# EAGLE library part STM32F723I (library sjg-stm32)
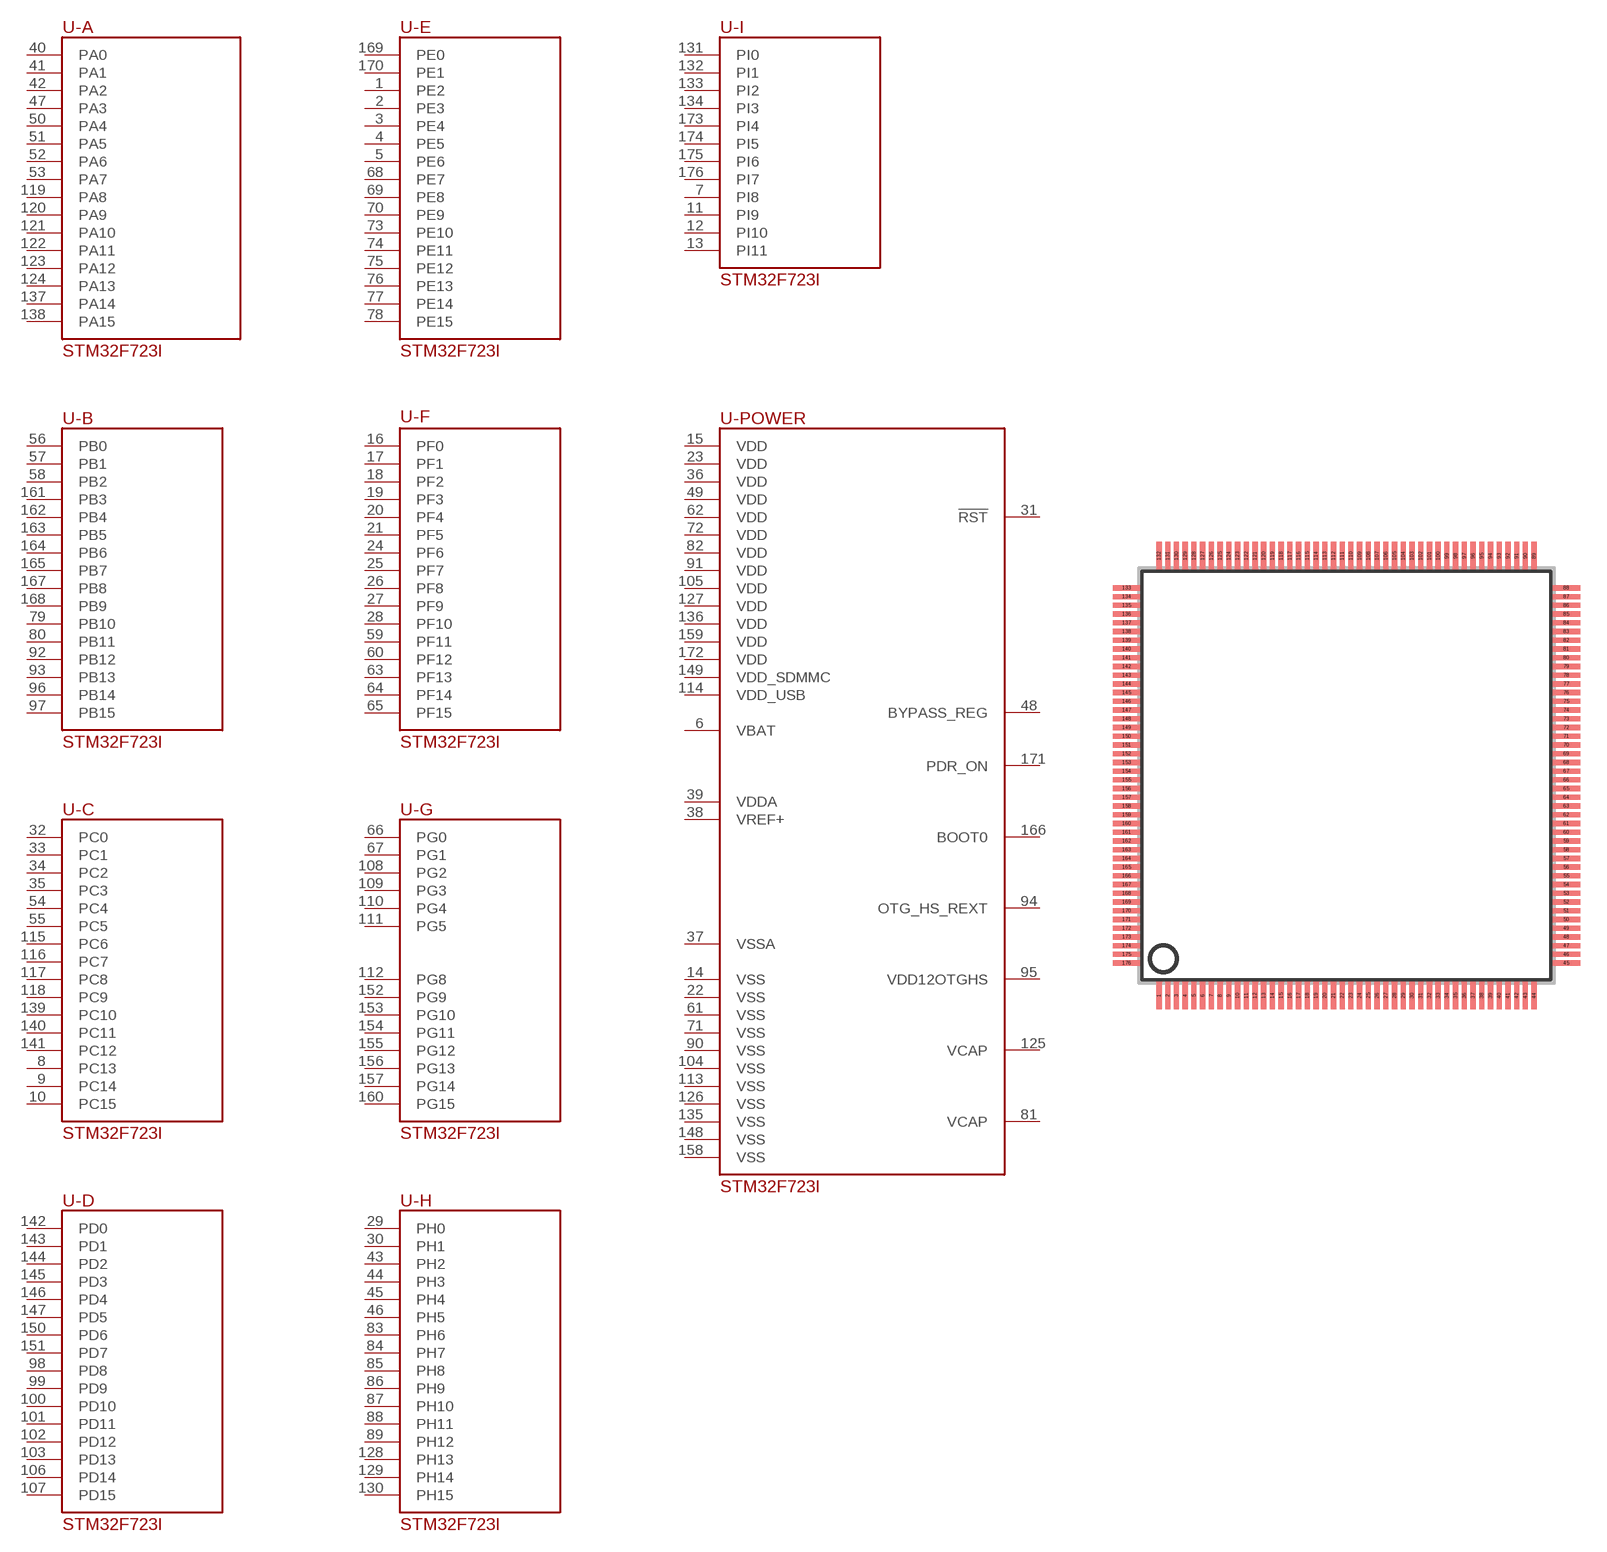
[diagram p11: symbol with the pads of SQFP-S-24X24-176; footprint SQFP-S-24X24-176]

Designator prefix -; gates -A=STM32F723I-A -B=STM32F723I-B -C=STM32F723I-C -D=STM32F723I-D -E=STM32F723I-E -F=STM32F723I-F -G=STM32F723I-G -H=STM32F723I-H -I=STM32F723I-I -POWER=STM32F723I-POWER

## STM32F723I  [SQFP-S-24X24-176]
1  -E:PE2
2  -E:PE3
3  -E:PE4
4  -E:PE5
5  -E:PE6
6  -POWER:VBAT
7  -I:PI8
8  -C:PC13
9  -C:PC14
10  -C:PC15
11  -I:PI9
12  -I:PI10
13  -I:PI11
14  -POWER:VSS
15  -POWER:VDD
16  -F:PF0
17  -F:PF1
18  -F:PF2
19  -F:PF3
20  -F:PF4
21  -F:PF5
22  -POWER:VSS
23  -POWER:VDD
24  -F:PF6
25  -F:PF7
26  -F:PF8
27  -F:PF9
28  -F:PF10
29  -H:PH0
30  -H:PH1
31  -POWER:!RST!
32  -C:PC0
33  -C:PC1
34  -C:PC2
35  -C:PC3
36  -POWER:VDD
37  -POWER:VSSA
38  -POWER:VREF+
39  -POWER:VDDA
40  -A:PA0
41  -A:PA1
42  -A:PA2
43  -H:PH2
44  -H:PH3
45  -H:PH4
46  -H:PH5
47  -A:PA3
48  -POWER:BYPASS_REG
49  -POWER:VDD
50  -A:PA4
51  -A:PA5
52  -A:PA6
53  -A:PA7
54  -C:PC4
55  -C:PC5
56  -B:PB0
57  -B:PB1
58  -B:PB2
59  -F:PF11
60  -F:PF12
61  -POWER:VSS
62  -POWER:VDD
63  -F:PF13
64  -F:PF14
65  -F:PF15
66  -G:PG0
67  -G:PG1
68  -E:PE7
69  -E:PE8
70  -E:PE9
71  -POWER:VSS
72  -POWER:VDD
73  -E:PE10
74  -E:PE11
75  -E:PE12
76  -E:PE13
77  -E:PE14
78  -E:PE15
79  -B:PB10
80  -B:PB11
81  -POWER:VCAP
82  -POWER:VDD
83  -H:PH6
84  -H:PH7
85  -H:PH8
86  -H:PH9
87  -H:PH10
88  -H:PH11
89  -H:PH12
90  -POWER:VSS
91  -POWER:VDD
92  -B:PB12
93  -B:PB13
94  -POWER:OTG_HS_REXT
95  -POWER:VDD12OTGHS
96  -B:PB14
97  -B:PB15
98  -D:PD8
99  -D:PD9
100  -D:PD10
101  -D:PD11
102  -D:PD12
103  -D:PD13
104  -POWER:VSS
105  -POWER:VDD
106  -D:PD14
107  -D:PD15
108  -G:PG2
109  -G:PG3
110  -G:PG4
111  -G:PG5
112  -G:PG8
113  -POWER:VSS
114  -POWER:VDD_USB
115  -C:PC6
116  -C:PC7
117  -C:PC8
118  -C:PC9
119  -A:PA8
120  -A:PA9
121  -A:PA10
122  -A:PA11
123  -A:PA12
124  -A:PA13
125  -POWER:VCAP
126  -POWER:VSS
127  -POWER:VDD
128  -H:PH13
129  -H:PH14
130  -H:PH15
131  -I:PI0
132  -I:PI1
133  -I:PI2
134  -I:PI3
135  -POWER:VSS
136  -POWER:VDD
137  -A:PA14
138  -A:PA15
139  -C:PC10
140  -C:PC11
141  -C:PC12
142  -D:PD0
143  -D:PD1
144  -D:PD2
145  -D:PD3
146  -D:PD4
147  -D:PD5
148  -POWER:VSS
149  -POWER:VDD_SDMMC
150  -D:PD6
151  -D:PD7
152  -G:PG9
153  -G:PG10
154  -G:PG11
155  -G:PG12
156  -G:PG13
157  -G:PG14
158  -POWER:VSS
159  -POWER:VDD
160  -G:PG15
161  -B:PB3
162  -B:PB4
163  -B:PB5
164  -B:PB6
165  -B:PB7
166  -POWER:BOOT0
167  -B:PB8
168  -B:PB9
169  -E:PE0
170  -E:PE1
171  -POWER:PDR_ON
172  -POWER:VDD
173  -I:PI4
174  -I:PI5
175  -I:PI6
176  -I:PI7

## Footprint SQFP-S-24X24-176 (pad centres in mm)
QFP176 shrink quad flat pack, square
smd 0.3 x 1.6: 1 -10.75,-12.6; 2 -10.25,-12.6; 3 -9.75,-12.6; 4 -9.25,-12.6; 5 -8.75,-12.6; 6 -8.25,-12.6; 7 -7.75,-12.6; 8 -7.25,-12.6; 9 -6.75,-12.6; 10 -6.25,-12.6; 11 -5.75,-12.6; 12 -5.25,-12.6; 13 -4.75,-12.6; 14 -4.25,-12.6; 15 -3.75,-12.6; 16 -3.25,-12.6; 17 -2.75,-12.6; 18 -2.25,-12.6; 19 -1.75,-12.6; 20 -1.25,-12.6; 21 -0.75,-12.6; 22 -0.25,-12.6; 23 0.25,-12.6; 24 0.75,-12.6; 25 1.25,-12.6; 26 1.75,-12.6; 27 2.25,-12.6; 28 2.75,-12.6; 29 3.25,-12.6; 30 3.75,-12.6; 31 4.25,-12.6; 32 4.75,-12.6; 33 5.25,-12.6; 34 5.75,-12.6; 35 6.25,-12.6; 36 6.75,-12.6; 37 7.25,-12.6; 38 7.75,-12.6; 39 8.25,-12.6; 40 8.75,-12.6; 41 9.25,-12.6; 42 9.75,-12.6; 43 10.25,-12.6; 44 10.75,-12.6; 89 10.75,12.6; 90 10.25,12.6; 91 9.75,12.6; 92 9.25,12.6; 93 8.75,12.6; 94 8.25,12.6; 95 7.75,12.6; 96 7.25,12.6; 97 6.75,12.6; 98 6.25,12.6; 99 5.75,12.6; 100 5.25,12.6; 101 4.75,12.6; 102 4.25,12.6; 103 3.75,12.6; 104 3.25,12.6; 105 2.75,12.6; 106 2.25,12.6; 107 1.75,12.6; 108 1.25,12.6; 109 0.75,12.6; 110 0.25,12.6; 111 -0.25,12.6; 112 -0.75,12.6; 113 -1.25,12.6; 114 -1.75,12.6; 115 -2.25,12.6; 116 -2.75,12.6; 117 -3.25,12.6; 118 -3.75,12.6; 119 -4.25,12.6; 120 -4.75,12.6; 121 -5.25,12.6; 122 -5.75,12.6; 123 -6.25,12.6; 124 -6.75,12.6; 125 -7.25,12.6; 126 -7.75,12.6; 127 -8.25,12.6; 128 -8.75,12.6; 129 -9.25,12.6; 130 -9.75,12.6; 131 -10.25,12.6; 132 -10.75,12.6
smd 1.6 x 0.3: 45 12.6,-10.75; 46 12.6,-10.25; 47 12.6,-9.75; 48 12.6,-9.25; 49 12.6,-8.75; 50 12.6,-8.25; 51 12.6,-7.75; 52 12.6,-7.25; 53 12.6,-6.75; 54 12.6,-6.25; 55 12.6,-5.75; 56 12.6,-5.25; 57 12.6,-4.75; 58 12.6,-4.25; 59 12.6,-3.75; 60 12.6,-3.25; 61 12.6,-2.75; 62 12.6,-2.25; 63 12.6,-1.75; 64 12.6,-1.25; 65 12.6,-0.75; 66 12.6,-0.25; 67 12.6,0.25; 68 12.6,0.75; 69 12.6,1.25; 70 12.6,1.75; 71 12.6,2.25; 72 12.6,2.75; 73 12.6,3.25; 74 12.6,3.75; 75 12.6,4.25; 76 12.6,4.75; 77 12.6,5.25; 78 12.6,5.75; 79 12.6,6.25; 80 12.6,6.75; 81 12.6,7.25; 82 12.6,7.75; 83 12.6,8.25; 84 12.6,8.75; 85 12.6,9.25; 86 12.6,9.75; 87 12.6,10.25; 88 12.6,10.75; 133 -12.6,10.75; 134 -12.6,10.25; 135 -12.6,9.75; 136 -12.6,9.25; 137 -12.6,8.75; 138 -12.6,8.25; 139 -12.6,7.75; 140 -12.6,7.25; 141 -12.6,6.75; 142 -12.6,6.25; 143 -12.6,5.75; 144 -12.6,5.25; 145 -12.6,4.75; 146 -12.6,4.25; 147 -12.6,3.75; 148 -12.6,3.25; 149 -12.6,2.75; 150 -12.6,2.25; 151 -12.6,1.75; 152 -12.6,1.25; 153 -12.6,0.75; 154 -12.6,0.25; 155 -12.6,-0.25; 156 -12.6,-0.75; 157 -12.6,-1.25; 158 -12.6,-1.75; 159 -12.6,-2.25; 160 -12.6,-2.75; 161 -12.6,-3.25; 162 -12.6,-3.75; 163 -12.6,-4.25; 164 -12.6,-4.75; 165 -12.6,-5.25; 166 -12.6,-5.75; 167 -12.6,-6.25; 168 -12.6,-6.75; 169 -12.6,-7.25; 170 -12.6,-7.75; 171 -12.6,-8.25; 172 -12.6,-8.75; 173 -12.6,-9.25; 174 -12.6,-9.75; 175 -12.6,-10.25; 176 -12.6,-10.75